# Altium schematic symbol library Transformer.SchLib: 9 symbols
Pins are listed as number, name and electrical type; pins without a type are passive.

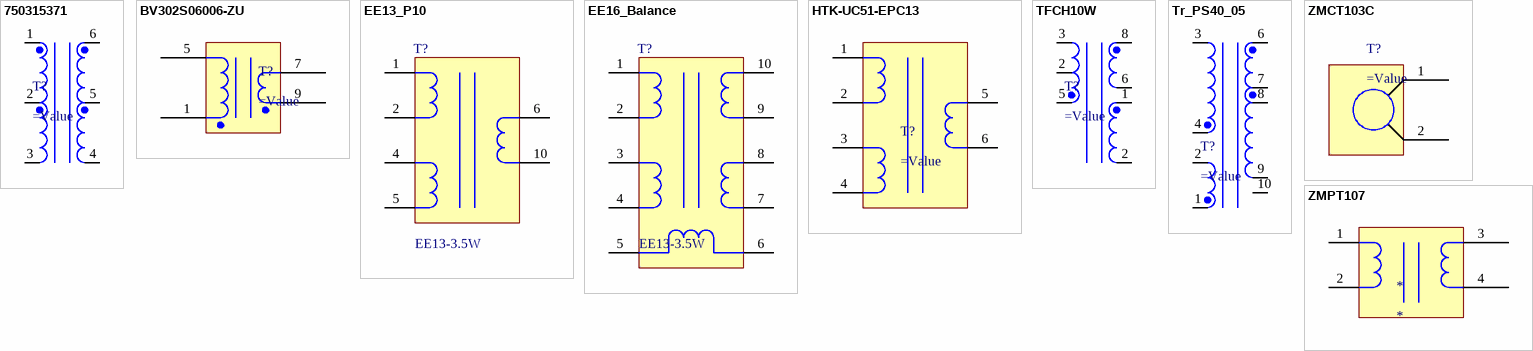
[diagram p0: symbols 750315371 to ZMPT107]

## 750315371
designator T?
=Description
pins: 1, 2, 3, 4, 5, 6

## BV302S06006-ZU
designator T?
=Description
pins: 1, 5, 7, 9

## EE13_P10
designator T?, comment EE13-3.5W
=Description; Manufacture: Vcoils; Partnumber: EE13-3.5W; Value: EE13-3.5W; Creator: Quyen.nv; Category: Transformer; Mounting type: Through Hole; Detailed Value: EE13-3.5W
footprint EE13
footprint EE13
pins: 1, 2, 4, 5, 6, 10

## EE16_Balance
designator T?, comment EE13-3.5W
=Description; Manufacture: Vcoils; Partnumber: EE13-3.5W; Value: EE13-3.5W; Creator: Quyen.nv; Category: Transformer; Mounting type: Through Hole; Detailed Value: EE13-3.5W
pins: 1, 2, 3, 4, 5, 6, 7, 8, 9, 10

## HTK-UC51-EPC13
designator T?
=Description
pins: 1, 2, 3, 4, 5, 6

## TFCH10W
designator T?
=Description
pins: 1, 2, 2, 3, 5, 6, 8

## Tr_PS40_05
designator T?
=Descriptioin
pins: 1, 2, 3, 4, 6, 7, 8, 9, 10

## ZMCT103C
designator T?
=Descriptioin
pins: 1 11, 2 12

## ZMPT107
designator *
pins: 1, 2, 3, 4